# EAGLE library part ST1327_FLASH (library custom)
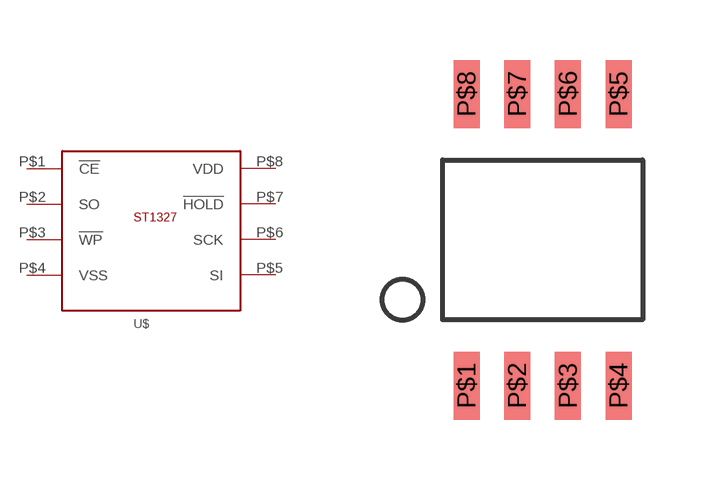
[diagram p11: symbol with the pads of SO8; footprint SO8]

Designator prefix U$

## ST1327_FLASH  [SO8]
P$1  !CE
P$2  SO
P$3  !WP
P$4  VSS
P$5  SI
P$6  SCK
P$7  !HOLD
P$8  VDD

## Footprint SO8 (pad centres in mm)
smd 0.65 x 1.7: P$1 -1.9,-3.65; P$2 -0.635,-3.65; P$3 0.635,-3.65; P$4 1.9,-3.65; P$5 1.9,3.65; P$6 0.635,3.65; P$7 -0.635,3.65; P$8 -1.9,3.65